# Altium schematic symbol library Infrared.SchLib: 1 symbol
Pins are listed as number, name and electrical type; pins without a type are passive.

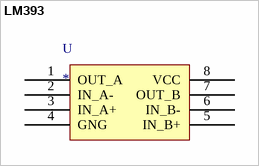
[diagram p0: symbol LM393]

## LM393
designator U
pins: 1 OUT_A, 2 IN_A-, 3 IN_A+, 4 GNG, 5 IN_B+, 6 IN_B-, 7 OUT_B, 8 VCC